# EAGLE library part TPD4E004DRYR (library PPMK_MSP430FR6989)
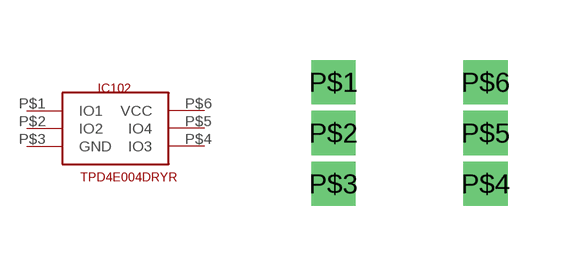
[diagram p6: symbol with the pads of TPD4E004DRYR; footprint TPD4E004DRYR]

Designator prefix -

## TPD4E004DRYR  [TPD4E004DRYR]
P$1  IO1
P$2  IO2
P$3  GND
P$4  IO3
P$5  IO4
P$6  VCC

## Footprint TPD4E004DRYR (pad centres in mm)
drill 0.6 square: P$1 -2.54,2.54; P$2 -2.54,1.27; P$3 -2.54,0; P$4 1.27,0; P$5 1.27,1.27; P$6 1.27,2.54